# EAGLE library part DAZZLER (library gd3x-dazzler)
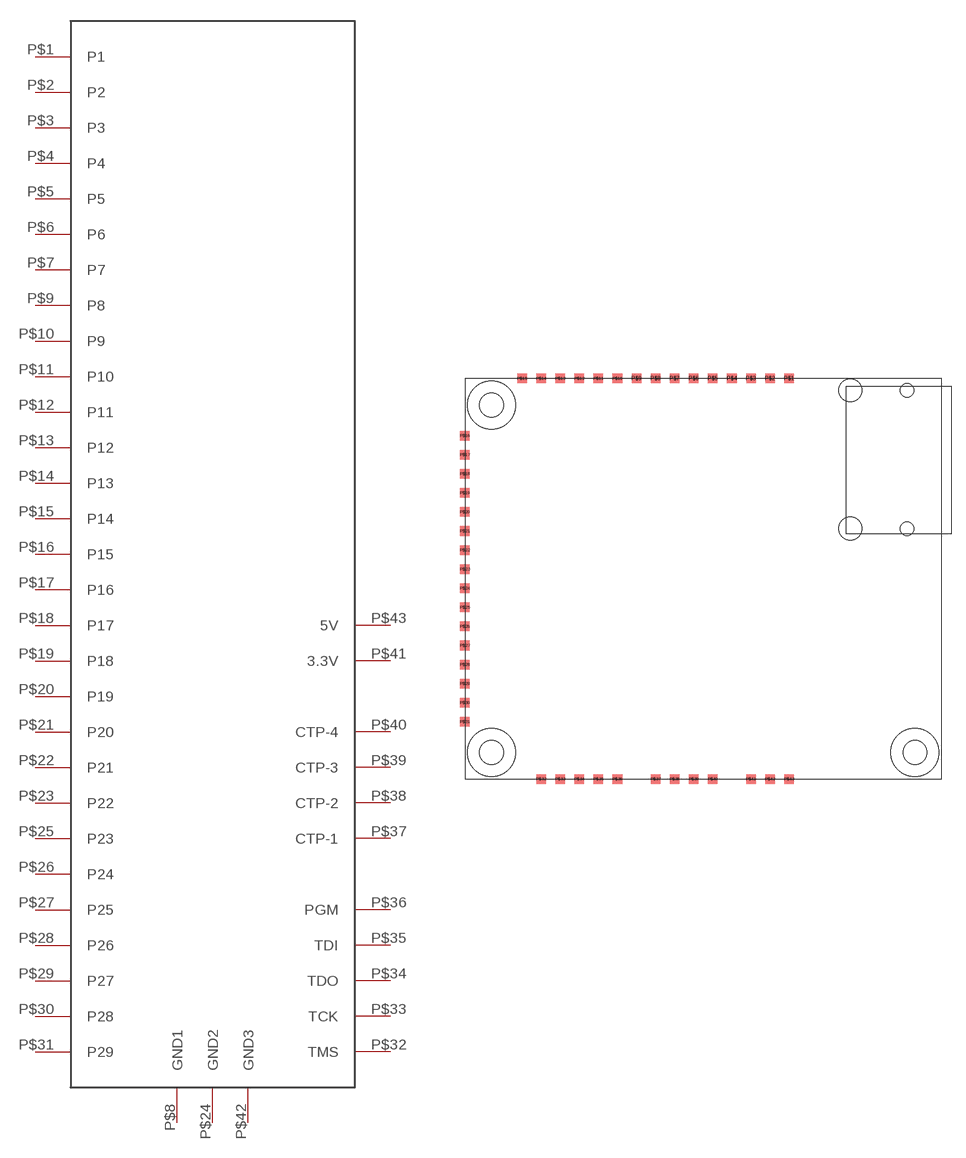
[diagram p0: symbol with the pads of DAZZLER-PAD; footprint DAZZLER-PAD]

Designator prefix -

## DAZZLER  [DAZZLER-PAD]
P$1  P1
P$2  P2
P$3  P3
P$4  P4
P$5  P5
P$6  P6
P$7  P7
P$8  GND1
P$9  P8
P$10  P9
P$11  P10
P$12  P11
P$13  P12
P$14  P13
P$15  P14
P$16  P15
P$17  P16
P$18  P17
P$19  P18
P$20  P19
P$21  P20
P$22  P21
P$23  P22
P$24  GND2
P$25  P23
P$26  P24
P$27  P25
P$28  P26
P$29  P27
P$30  P28
P$31  P29
P$32  TMS
P$33  TCK
P$34  TDO
P$35  TDI
P$36  PGM
P$37  CTP-1
P$38  CTP-2
P$39  CTP-3
P$40  CTP-4
P$41  3.3V
P$42  GND3
P$43  5V

## Footprint DAZZLER-PAD (pad centres in mm)
smd 1 x 1: P$1 9,21; P$2 7,21; P$3 5,21; P$4 3,21; P$5 1,21; P$6 -1,21; P$7 -3,21; P$8 -5,21; P$9 -7,21; P$10 -9,21; P$11 -11,21; P$12 -13,21; P$13 -15,21; P$14 -17,21; P$15 -19,21; P$16 -25,15; P$17 -25,13; P$18 -25,11; P$19 -25,9; P$20 -25,7; P$21 -25,5; P$22 -25,3; P$23 -25,1; P$24 -25,-1; P$25 -25,-3; P$26 -25,-5; P$27 -25,-7; P$28 -25,-9; P$29 -25,-11; P$30 -25,-13; P$31 -25,-15; P$32 -17,-21; P$33 -15,-21; P$34 -13,-21; P$35 -11,-21; P$36 -9,-21; P$37 -5,-21; P$38 -3,-21; P$39 -1,-21; P$40 1,-21; P$41 5,-21; P$42 7,-21; P$43 9,-21
hole 2.5 at -22.2,18.2
hole 2.5 at -22.2,-18.2
hole 2.5 at 22.2,-18.2
hole 2.4 at 15.41,19.75
hole 2.4 at 15.41,5.25
hole 1.4 at 21.37,19.75
hole 1.4 at 21.37,5.25